# EAGLE library part TYCO-RJ45 (library bender_head)
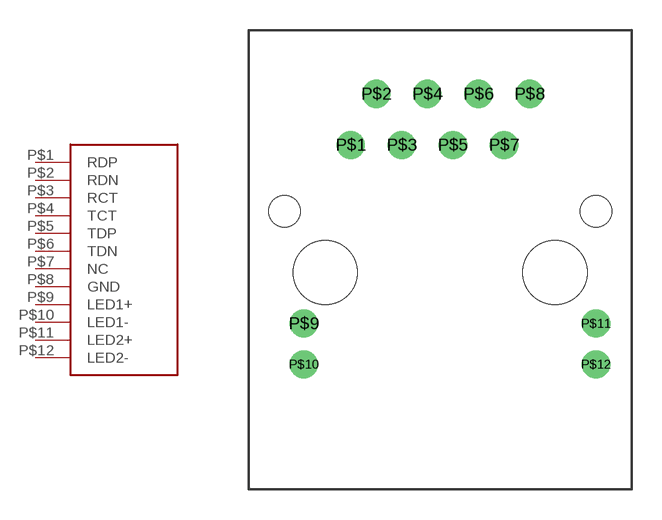
[diagram p2: symbol with the pads of TYCO-RJ45; footprint TYCO-RJ45]

Designator prefix -

## TYCO-RJ45  [TYCO-RJ45]
P$1  RDP
P$2  RDN
P$3  RCT
P$4  TCT
P$5  TDP
P$6  TDN
P$7  NC
P$8  GND
P$9  LED1+
P$10  LED1-
P$11  LED2+
P$12  LED2-

## Footprint TYCO-RJ45 (pad centres in mm)
drill 0.889: P$1 0,0; P$2 1.27,2.54; P$3 2.54,0; P$4 3.81,2.54; P$5 5.08,0; P$6 6.35,2.54; P$7 7.62,0; P$8 8.89,2.54; P$9 -2.337,-8.89; P$10 -2.337,-10.922; P$11 12.192,-8.89; P$12 12.192,-10.922
hole 3.2 at -1.27,-6.35
hole 1.575 at -3.302,-3.302
hole 3.2 at 10.16,-6.35
hole 1.575 at 12.192,-3.302